# Altium footprint library QUTMS_MolexLibrary.PcbLib: 1 footprints
Each footprint in its own frame and in the unit in brackets; x right, y up, seen from the top. Pads: shape width x height; smd on the part's side, far side on the other; paste and mask are expansions set on the pad; w line width, h text height; cw(c..) or ccw(c..) is an arc to the next point about the centre after c.
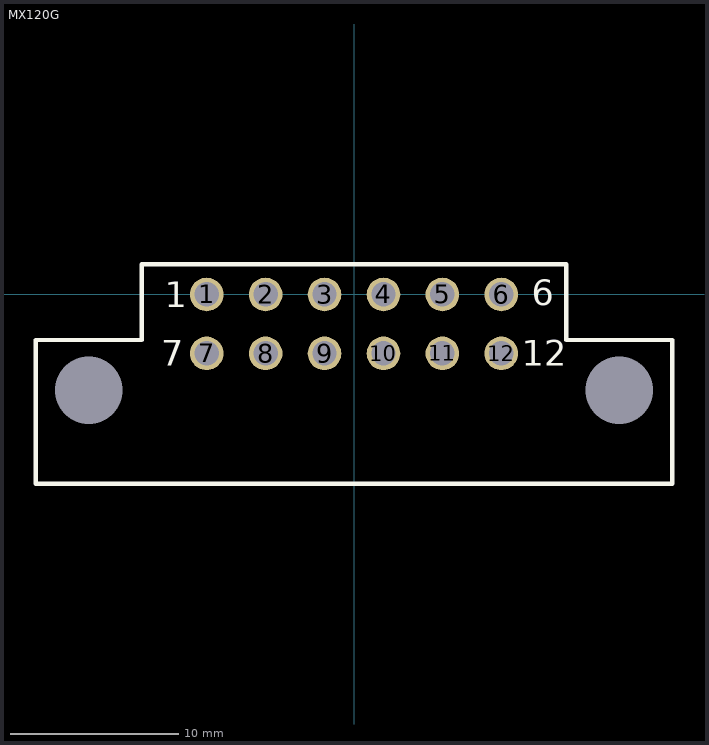
[diagram p0: the footprint, top view; thin cyan lines are the x and y axes]

## MX120G [mm]
pads (14):
  round 2 hole 1.45: 1(-8.75,0) 2(-5.25,0) 3(-1.75,0) 4(1.75,0) 5(5.25,0) 6(8.75,0) 7(-8.75,-3.5) 8(-5.25,-3.5) 9(-1.75,-3.5) 10(1.75,-3.5) 11(5.25,-3.5) 12(8.75,-3.5)
  round 0 hole 4 mask+0.254: NC(-15.75,-5.7) NC(15.75,-5.7)
Top Overlay:
  lines w0.254: -18.9,-11.25 18.9,-11.25 ; -18.9,-11.2 -18.9,-5.7 -18.9,-2.7 -15.75,-2.7 -12.6,-2.7 -12.6,1.8 12.6,1.8 12.6,-2.7 15.75,-2.7 18.9,-2.7 18.9,-5.7 18.9,-11.2
  text "1" at -11.246,-0.746 h1.52
  text "7" at -11.446,-4.246 h1.52
  text "6" at 10.554,-0.646 h1.52
  text "12" at 9.954,-4.246 h1.52
3D body "143626.stp": height 22.58, standoff -5.04, extent -18.779,-32.1 18.579,0.358